# Altium schematic symbol library crystals.SchLib: 1 symbol
Pins are listed as number, name and electrical type; pins without a type are passive.

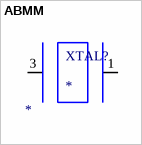
[diagram p0: symbol ABMM]

## ABMM
designator XTAL?
CERAMIC SURFACE MOUNT MICROPROCESSOR CRYSTAL; frequency: *
footprint ABMM (CERAMIC SURFACE MOUNT MICROPROCESSOR CRYSTAL 7.0 x 5.0 x 1.3 mm)
pins: 1, 3